# EAGLE library part SN74LV594APW (library xess)
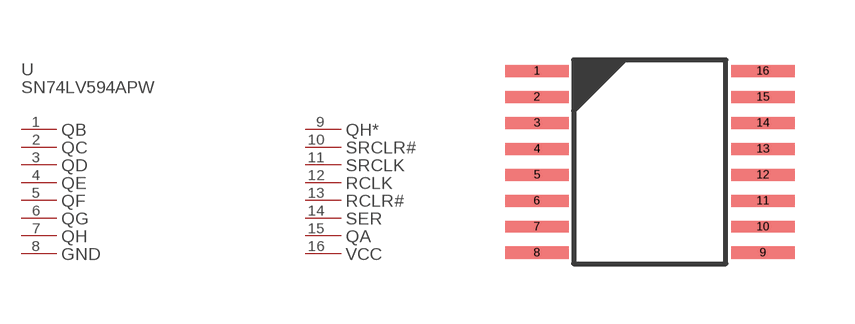
[diagram p113: symbol with the pads of SN74LV594APW; footprint SN74LV594APW]

Designator prefix U; gates PART_VALUE=PART_VALUE-SN74LV594APW QB=PL-SN74LV594APW QC=PL-SN74LV594APW QD=PL-SN74LV594APW QE=PL-SN74LV594APW QF=PL-SN74LV594APW QG=PL-SN74LV594APW QH=PL-SN74LV594APW GND=PL-SN74LV594APW QH*=PL-SN74LV594APW SRCLR#=PL-SN74LV594APW SRCLK=PL-SN74LV594APW RCLK=PL-SN74LV594APW RCLR#=PL-SN74LV594APW SER=PL-SN74LV594APW QA=PL-SN74LV594APW VCC=PL-SN74LV594APW

## SN74LV594APW  [SN74LV594APW]
1  QB:P$1
2  QC:P$1
3  QD:P$1
4  QE:P$1
5  QF:P$1
6  QG:P$1
7  QH:P$1
8  GND:P$1
9  QH*:P$1
10  SRCLR#:P$1
11  SRCLK:P$1
12  RCLK:P$1
13  RCLR#:P$1
14  SER:P$1
15  QA:P$1
16  VCC:P$1

## Footprint SN74LV594APW (pad centres in mm)
smd 1.59 x 0.3: 1 0,0; 2 0,-0.65; 3 0,-1.3; 4 0,-1.95; 5 0,-2.6; 6 0,-3.25; 7 0,-3.9; 8 0,-4.55; 9 5.65,-4.55; 10 5.65,-3.9; 11 5.65,-3.25; 12 5.65,-2.6; 13 5.65,-1.95; 14 5.65,-1.3; 15 5.65,-0.65; 16 5.65,0